# EAGLE library part 24AA025E48 (library snow)
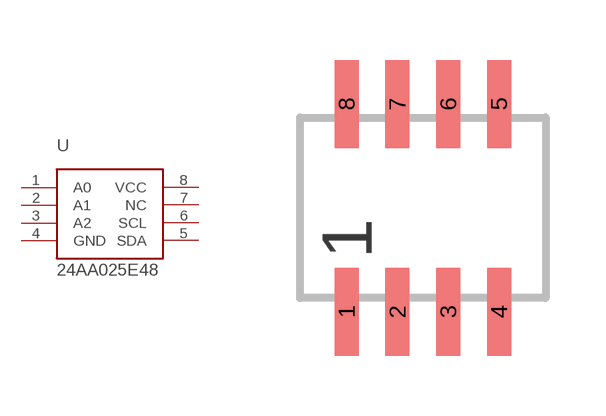
[diagram p3: symbol with the pads of SOP8; footprint SOP8]

Designator prefix -

## 24AA025E48  [SOP8]
1  A0  in
2  A1  in
3  A2  in
4  GND  pwr
5  SDA
6  SCL  in
7  NC  nc
8  VCC  pwr

## Footprint SOP8 (pad centres in mm)
smd 0.6 x 2.2: 1 -1.905,-2.6; 2 -0.635,-2.6; 3 0.635,-2.6; 4 1.905,-2.6; 5 1.905,2.6; 6 0.635,2.6; 7 -0.635,2.6; 8 -1.905,2.6